# EAGLE library part H8/3396 (library oldchips2)
Hitachi H8/3396 CPU 48K ROM 2K RAM
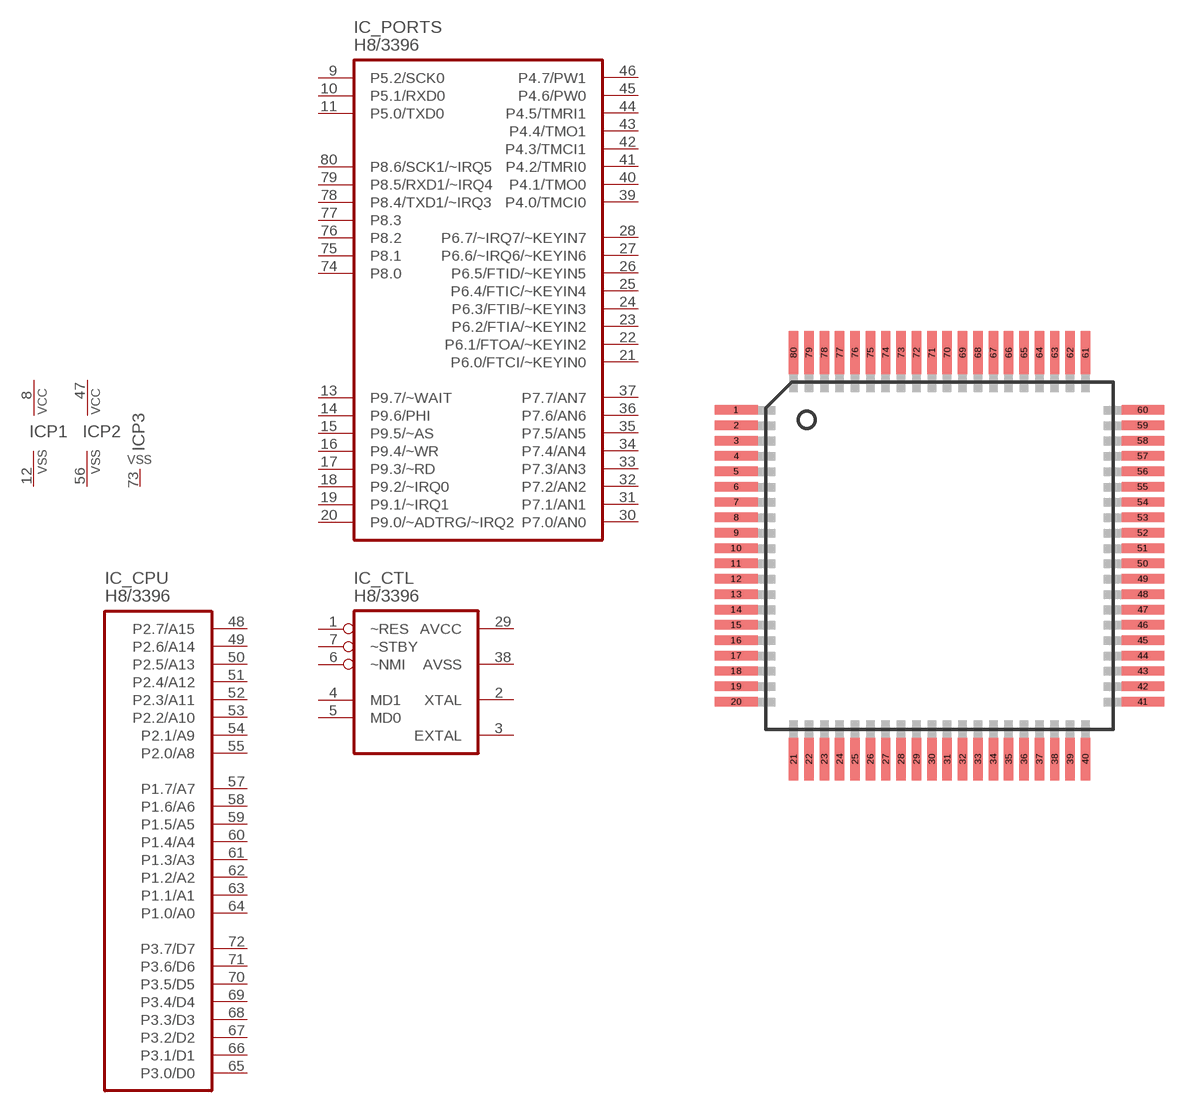
[diagram p3: symbol with the pads of QFP80-17X17; footprint QFP80-17X17]

Designator prefix IC; gates _CPU=H8_3396 _PORTS=H8_3396_PORTS P1=VCCVSS P2=VCCVSS P3=VSS _CTL=H8_3396_CTL

## H8/3396  [QFP80-17X17]
1  _CTL:~RES  in
2  _CTL:XTAL  in
3  _CTL:EXTAL  in
4  _CTL:MD1  in
5  _CTL:MD0  in
6  _CTL:~NMI  in
7  _CTL:~STBY  in
8  P1:VCC  pwr
9  _PORTS:P5.2/SCK0
10  _PORTS:P5.1/RXD0
11  _PORTS:P5.0/TXD0
12  P1:VSS  pwr
13  _PORTS:P9.7/~WAIT
14  _PORTS:P9.6/PHI
15  _PORTS:P9.5/~AS
16  _PORTS:P9.4/~WR
17  _PORTS:P9.3/~RD
18  _PORTS:P9.2/~IRQ0
19  _PORTS:P9.1/~IRQ1
20  _PORTS:P9.0/~ADTRG/~IRQ2
21  _PORTS:P6.0/FTCI/~KEYIN0
22  _PORTS:P6.1/FTOA/~KEYIN2
23  _PORTS:P6.2/FTIA/~KEYIN2
24  _PORTS:P6.3/FTIB/~KEYIN3
25  _PORTS:P6.4/FTIC/~KEYIN4
26  _PORTS:P6.5/FTID/~KEYIN5
27  _PORTS:P6.6/~IRQ6/~KEYIN6
28  _PORTS:P6.7/~IRQ7/~KEYIN7
29  _CTL:AVCC  pwr
30  _PORTS:P7.0/AN0
31  _PORTS:P7.1/AN1
32  _PORTS:P7.2/AN2
33  _PORTS:P7.3/AN3
34  _PORTS:P7.4/AN4
35  _PORTS:P7.5/AN5
36  _PORTS:P7.6/AN6
37  _PORTS:P7.7/AN7
38  _CTL:AVSS  pwr
39  _PORTS:P4.0/TMCI0
40  _PORTS:P4.1/TMO0
41  _PORTS:P4.2/TMRI0
42  _PORTS:P4.3/TMCI1
43  _PORTS:P4.4/TMO1
44  _PORTS:P4.5/TMRI1
45  _PORTS:P4.6/PW0
46  _PORTS:P4.7/PW1
47  P2:VCC  pwr
48  _CPU:P2.7/A15
49  _CPU:P2.6/A14
50  _CPU:P2.5/A13
51  _CPU:P2.4/A12
52  _CPU:P2.3/A11
53  _CPU:P2.2/A10
54  _CPU:P2.1/A9
55  _CPU:P2.0/A8
56  P2:VSS  pwr
57  _CPU:P1.7/A7
58  _CPU:P1.6/A6
59  _CPU:P1.5/A5
60  _CPU:P1.4/A4
61  _CPU:P1.3/A3
62  _CPU:P1.2/A2
63  _CPU:P1.1/A1
64  _CPU:P1.0/A0
65  _CPU:P3.0/D0
66  _CPU:P3.1/D1
67  _CPU:P3.2/D2
68  _CPU:P3.3/D3
69  _CPU:P3.4/D4
70  _CPU:P3.5/D5
71  _CPU:P3.6/D6
72  _CPU:P3.7/D7
73  P3:VSS  pwr
74  _PORTS:P8.0
75  _PORTS:P8.1
76  _PORTS:P8.2
77  _PORTS:P8.3
78  _PORTS:P8.4/TXD1/~IRQ3
79  _PORTS:P8.5/RXD1/~IRQ4
80  _PORTS:P8.6/SCK1/~IRQ5

## Footprint QFP80-17X17 (pad centres in mm)
QFP80 17mm x 17mm 0.65mm pin pitch
smd 1.8 x 0.4: 1 -8.6,6.175; 2 -8.6,5.525; 3 -8.6,4.875; 4 -8.6,4.225; 5 -8.6,3.575; 6 -8.6,2.925; 7 -8.6,2.275; 8 -8.6,1.625; 9 -8.6,0.975; 10 -8.6,0.325; 11 -8.6,-0.325; 12 -8.6,-0.975; 13 -8.6,-1.625; 14 -8.6,-2.275; 15 -8.6,-2.925; 16 -8.6,-3.575; 17 -8.6,-4.225; 18 -8.6,-4.875; 19 -8.6,-5.525; 20 -8.6,-6.175; 41 8.6,-6.175; 42 8.6,-5.525; 43 8.6,-4.875; 44 8.6,-4.225; 45 8.6,-3.575; 46 8.6,-2.925; 47 8.6,-2.275; 48 8.6,-1.625; 49 8.6,-0.975; 50 8.6,-0.325; 51 8.6,0.325; 52 8.6,0.975; 53 8.6,1.625; 54 8.6,2.275; 55 8.6,2.925; 56 8.6,3.575; 57 8.6,4.225; 58 8.6,4.875; 59 8.6,5.525; 60 8.6,6.175
smd 0.4 x 1.8: 21 -6.175,-8.6; 22 -5.525,-8.6; 23 -4.875,-8.6; 24 -4.225,-8.6; 25 -3.575,-8.6; 26 -2.925,-8.6; 27 -2.275,-8.6; 28 -1.625,-8.6; 29 -0.975,-8.6; 30 -0.325,-8.6; 31 0.325,-8.6; 32 0.975,-8.6; 33 1.625,-8.6; 34 2.275,-8.6; 35 2.925,-8.6; 36 3.575,-8.6; 37 4.225,-8.6; 38 4.875,-8.6; 39 5.525,-8.6; 40 6.175,-8.6; 61 6.175,8.6; 62 5.525,8.6; 63 4.875,8.6; 64 4.225,8.6; 65 3.575,8.6; 66 2.925,8.6; 67 2.275,8.6; 68 1.625,8.6; 69 0.975,8.6; 70 0.325,8.6; 71 -0.325,8.6; 72 -0.975,8.6; 73 -1.625,8.6; 74 -2.275,8.6; 75 -2.925,8.6; 76 -3.575,8.6; 77 -4.225,8.6; 78 -4.875,8.6; 79 -5.525,8.6; 80 -6.175,8.6